# Altium schematic symbol library C4040.SchLib: 1 symbol
Pins are listed as number, name and electrical type; pins without a type are passive.

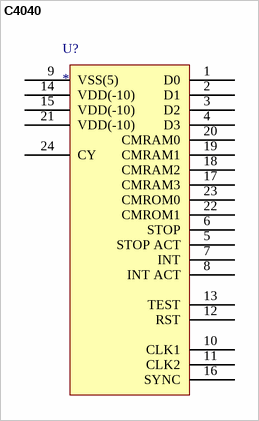
[diagram p0: symbol C4040]

## C4040
designator U?
pins: 1 D0, 2 D1, 3 D2, 4 D3, 5 STOP ACT, 6 STOP, 7 INT, 8 INT ACT, 9 VSS(5), 10 CLK1, 11 CLK2, 12 RST, 13 TEST, 14 VDD(-10), 15 VDD(-10), 16 SYNC, 17 CMRAM3, 18 CMRAM2, 19 CMRAM1, 20 CMRAM0, 21 VDD(-10), 22 CMROM1, 23 CMROM0, 24 CY